# Altium footprint library TF卡座.PcbLib: 1 footprints
Each footprint in its own frame and in the unit in brackets; x right, y up, seen from the top. Pads: shape width x height; smd on the part's side, far side on the other; paste and mask are expansions set on the pad; w line width, h text height; cw(c..) or ccw(c..) is an arc to the next point about the centre after c.
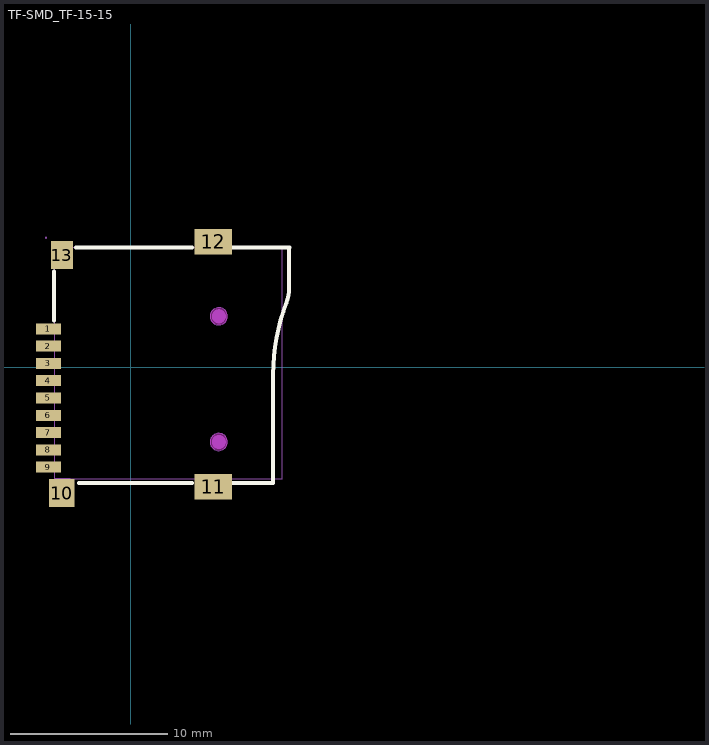
[diagram p0: the footprint, top view; thin cyan lines are the x and y axes]

## TF-SMD_TF-15-15 [mil]
pads (13):
  rect 63x27.6 smd: 1(-206.75,96.45) 2(-206.75,53.15) 3(-206.75,9.84) 4(-206.75,-33.47) 5(-206.75,-76.77) 6(-206.75,-120.08) 7(-206.75,-163.39) 8(-206.75,-206.7) 9(-206.75,-250)
  rect 63x70.87 smd: 10(-173.17,-314.96)
  rect 94.49x62.99 smd: 11(206.75,-299.22) 12(206.75,314.96)
  rect 55.1x70.9 smd: 13(-173.15,281.51)
Top Overlay:
  lines w10: -193.15,117.87 -193.15,239.87 ; -138.15,300.87 152.85,300.87 ; -130.15,-290.13 152.85,-290.13 ; 255.85,-290.13 356.85,-290.13 356.85,-17.13 ; 255.85,300.87 397.85,300.87 ; 356.85,-16.66 cw(c856.85,-16.66) 389.6,161.34 ccw(c286.28,200.7) 396.85,200.7 ; 396.85,200.87 396.85,299.87
Keep-Out Layer:
  board cut-out: 242.18,127.95 242.13,132.22 238.78,140.07 232.7,146.07 224.8,149.31 216.26,149.31 208.36,146.07 202.28,140.07 198.94,132.22 198.88,127.95 198.94,123.68 202.29,115.82 208.37,109.83 216.26,106.59 224.8,106.59 232.7,109.83 238.78,115.83 242.13,123.68 242.18,127.95
  board cut-out: 242.18,-187.01 242.13,-182.74 238.78,-174.89 232.7,-168.89 224.8,-165.65 216.26,-165.65 208.36,-168.89 202.28,-174.89 198.94,-182.74 198.88,-187.01 198.94,-191.28 202.29,-199.14 208.37,-205.13 216.26,-208.37 224.8,-208.37 232.7,-205.13 238.78,-199.13 242.13,-191.28 242.18,-187.01
Mechanical 1:
  circle w0.2: c220.53,127.95 r21.65
  circle w0.2: c220.53,-187.01 r21.65
Mechanical 6:
  circle w17.72: c220.53,-187.01 r8.86
  circle w17.72: c220.53,127.95 r8.86
Mechanical 15:
  region: 238.25,293.29 175.25,293.29 175.25,324.78 238.25,324.78
  region: 175.25,-277.55 238.25,-277.55 238.25,-309.04 175.25,-309.04
  region: -151.61,-277.55 -151.61,-316.92 -190.98,-316.92 -190.98,-277.55
  region: -190.98,301.19 -151.61,301.19 -151.61,261.82 -190.98,261.82
  region: -212.64,102.36 -185.08,102.36 -185.08,90.54 -212.64,90.54
  region: -212.64,59.06 -185.08,59.06 -185.08,47.24 -212.64,47.24
  region: -212.64,15.75 -185.08,15.75 -185.08,3.93 -212.64,3.93
  region: -212.64,-27.56 -185.08,-27.56 -185.08,-39.38 -212.64,-39.38
  region: -212.64,-70.86 -185.08,-70.86 -185.08,-82.68 -212.64,-82.68
  region: -212.64,-114.17 -185.08,-114.17 -185.08,-125.99 -212.64,-125.99
  region: -212.64,-157.48 -185.08,-157.48 -185.08,-169.3 -212.64,-169.3
  region: -212.64,-200.79 -185.08,-200.79 -185.08,-212.61 -212.64,-212.61
  region: -212.64,-244.09 -185.08,-244.09 -185.08,-255.91 -212.64,-255.91
  region: -210.28,324.78 -210.3,325.74 -211.68,327.09 -213.6,327.09 -214.98,325.74 -215,324.78 -214.98,323.81 -213.6,322.47 -211.67,322.47 -210.3,323.82 -210.28,324.78
  lines w2: -190.98,-279.51 379.88,-279.51 379.88,301.19 -190.98,301.19 -190.98,-279.51
Multi-Layer keep-out:
  region: 242.18,127.95 242.13,132.22 238.78,140.07 232.7,146.07 224.8,149.31 216.26,149.31 208.36,146.07 202.28,140.07 198.94,132.22 198.88,127.95 198.94,123.68 202.29,115.82 208.37,109.83 216.26,106.59 224.8,106.59 232.7,109.83 238.78,115.83 242.13,123.68 242.18,127.95
  region: 242.18,-187.01 242.13,-182.74 238.78,-174.89 232.7,-168.89 224.8,-165.65 216.26,-165.65 208.36,-168.89 202.28,-174.89 198.94,-182.74 198.88,-187.01 198.94,-191.28 202.29,-199.14 208.37,-205.13 216.26,-208.37 224.8,-208.37 232.7,-205.13 238.78,-199.13 242.13,-191.28 242.18,-187.01
3D body "TF卡座.SLDPRT": height 88.33, standoff -16.04, extent -217.95,-308.98 380.48,326.85